# Altium footprint library ImegurasLib.PcbLib: 4 footprints
Each footprint in its own frame and in the unit in brackets; x right, y up, seen from the top. Pads: shape width x height; smd on the part's side, far side on the other; paste and mask are expansions set on the pad; w line width, h text height; cw(c..) or ccw(c..) is an arc to the next point about the centre after c.
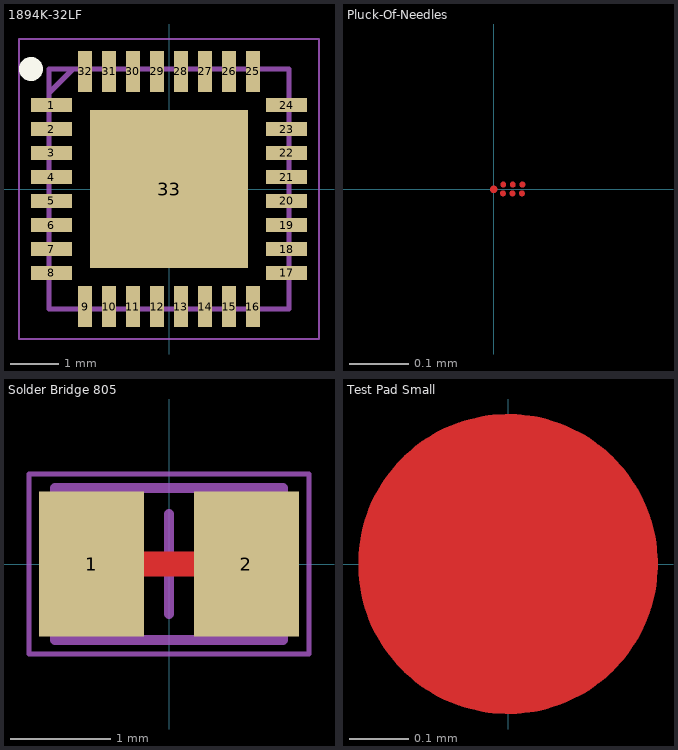
[diagram p0: the footprints below, top view; thin cyan lines are the x and y axes]

## 1894K-32LF [mm]
pads (33):
  rect 0.85x0.3 smd: 1(-2.45,1.75) 2(-2.45,1.25) 3(-2.45,0.75) 4(-2.45,0.25) 5(-2.45,-0.25) 6(-2.45,-0.75) 7(-2.45,-1.25) 8(-2.45,-1.75) 17(2.45,-1.75) 18(2.45,-1.25) 19(2.45,-0.75) 20(2.45,-0.25) 21(2.45,0.25) 22(2.45,0.75) 23(2.45,1.25) 24(2.45,1.75)
  rect 0.3x0.85 smd: 9(-1.75,-2.45) 10(-1.25,-2.45) 11(-0.75,-2.45) 12(-0.25,-2.45) 13(0.25,-2.45) 14(0.75,-2.45) 15(1.25,-2.45) 16(1.75,-2.45) 25(1.75,2.45) 26(1.25,2.45) 27(0.75,2.45) 28(0.25,2.45) 29(-0.25,2.45) 30(-0.75,2.45) 31(-1.25,2.45) 32(-1.75,2.45)
  rect 3.3x3.3 smd: 33(0,0)
Top Overlay:
  circle w0.25: c-2.875,2.5 r0.125
Mechanical 15:
  lines w0.1: -2.5,2 -2,2.5 ; -2.5,-2.5 2.5,-2.5 2.5,2.5 -2.5,2.5 -2.5,-2.5
Mechanical 20:
  lines w0.05: -3.125,-3.125 3.125,-3.125 3.125,3.125 -3.125,3.125 -3.125,-3.125
3D body "1894K-32LF.stp": height 1, standoff 0, extent -2.55,-2.55 2.55,2.55

## Pluck-Of-Needles [mm] "A proprietary solderless JTAG disposition"
Top Layer:
  circle w0.01: c0.016,-0.007 r0
  circle w0.01: c0.048,-0.007 r0
  circle w0.01: c0.032,-0.007 r0
  circle w0.01: c0.032,0.008 r0
  circle w0.013: c0,0 r0
  circle w0.01: c0.048,0.008 r0
  circle w0.01: c0.016,0.008 r0

## Solder Bridge 805 [mm] "Closed Solder Bridge"
height 0.59
pads (2):
  rect 1.05x1.45 smd: 1(-0.775,0) 2(0.775,0)
Top Layer:
  lines w0.254: -0.775,0 0.775,0
Mechanical 13:
  lines w0.1: -1.14,-0.76 -1.14,0.76 1.14,0.76 1.14,-0.76 -1.14,-0.76
Mechanical 15:
  lines w0.05: -1.4,-0.9 -1.4,0.9 1.4,0.9 1.4,-0.9 -1.4,-0.9
  lines w0.1: -0.5,0 0.5,0 ; 0,-0.5 0,0.5

## Test Pad Small [mm] "A small test pad for HF applications"
Top Layer:
  circle w0.254: c0,0 r0.127